# EAGLE library part MAX8559ETAAA+T (library MAX8559ETAAA+T)
LDO Voltage Regulators Dual 300mA Low-Noise Linear Regulator Source: Datasheet <https://datasheets.maximintegrated.com/en/ds/MAX8559.pdf>
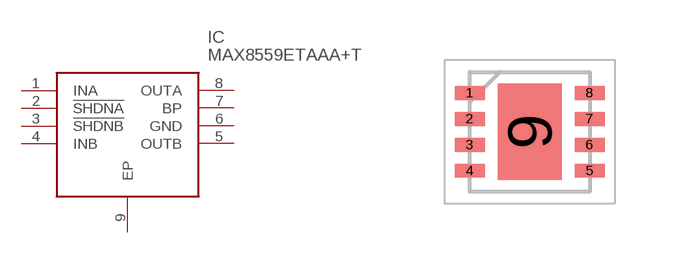
[diagram p0: symbol with the pads of SON65P300X300X80-9N; footprint SON65P300X300X80-9N]

Designator prefix IC

## MAX8559ETAAA+T (Arrow_Part_Number: MAX8559ETAAA+T; Arrow_Price-Stock: https://www.arrow.com/en/products/max8559etaaat/maxim-integrated?region=nac; Description: LDO Voltage Regulators Dual 300mA Low-Noise Linear Regulator; Height: 0.8mm; Manufacturer_Name: Maxim Integrated; Manufacturer_Part_Number: MAX8559ETAAA+T; Mouser_Part_Number: 700-MAX8559ETAAAT; Mouser_Price-Stock: https://www.mouser.co.uk/ProductDetail/Maxim-Integrated/MAX8559ETAAA%2bT?qs=Jw2w9zrI6w82U2vO8NRcoQ%3D%3D)  [SON65P300X300X80-9N]
1  INA
2  !SHDNA
3  !SHDNB
4  INB
5  OUTB
6  GND
7  BP
8  OUTA
9  EP

## Footprint SON65P300X300X80-9N (pad centres in mm)
8 TDFN T833+2
smd 0.75 x 0.35: 1 -1.5,0.975; 2 -1.5,0.325; 3 -1.5,-0.325; 4 -1.5,-0.975; 5 1.5,-0.975; 6 1.5,-0.325; 7 1.5,0.325; 8 1.5,0.975
smd 1.6 x 2.4: 9 0,0